# Altium footprint library MitchSwitch_Bypass.PCBLIB: 270 footprints (part 4 of 17)
Each footprint in its own frame and in the unit in brackets; x right, y up, seen from the top. Pads: shape width x height; smd on the part's side, far side on the other; paste and mask are expansions set on the pad; w line width, h text height; cw(c..) or ccw(c..) is an arc to the next point about the centre after c.
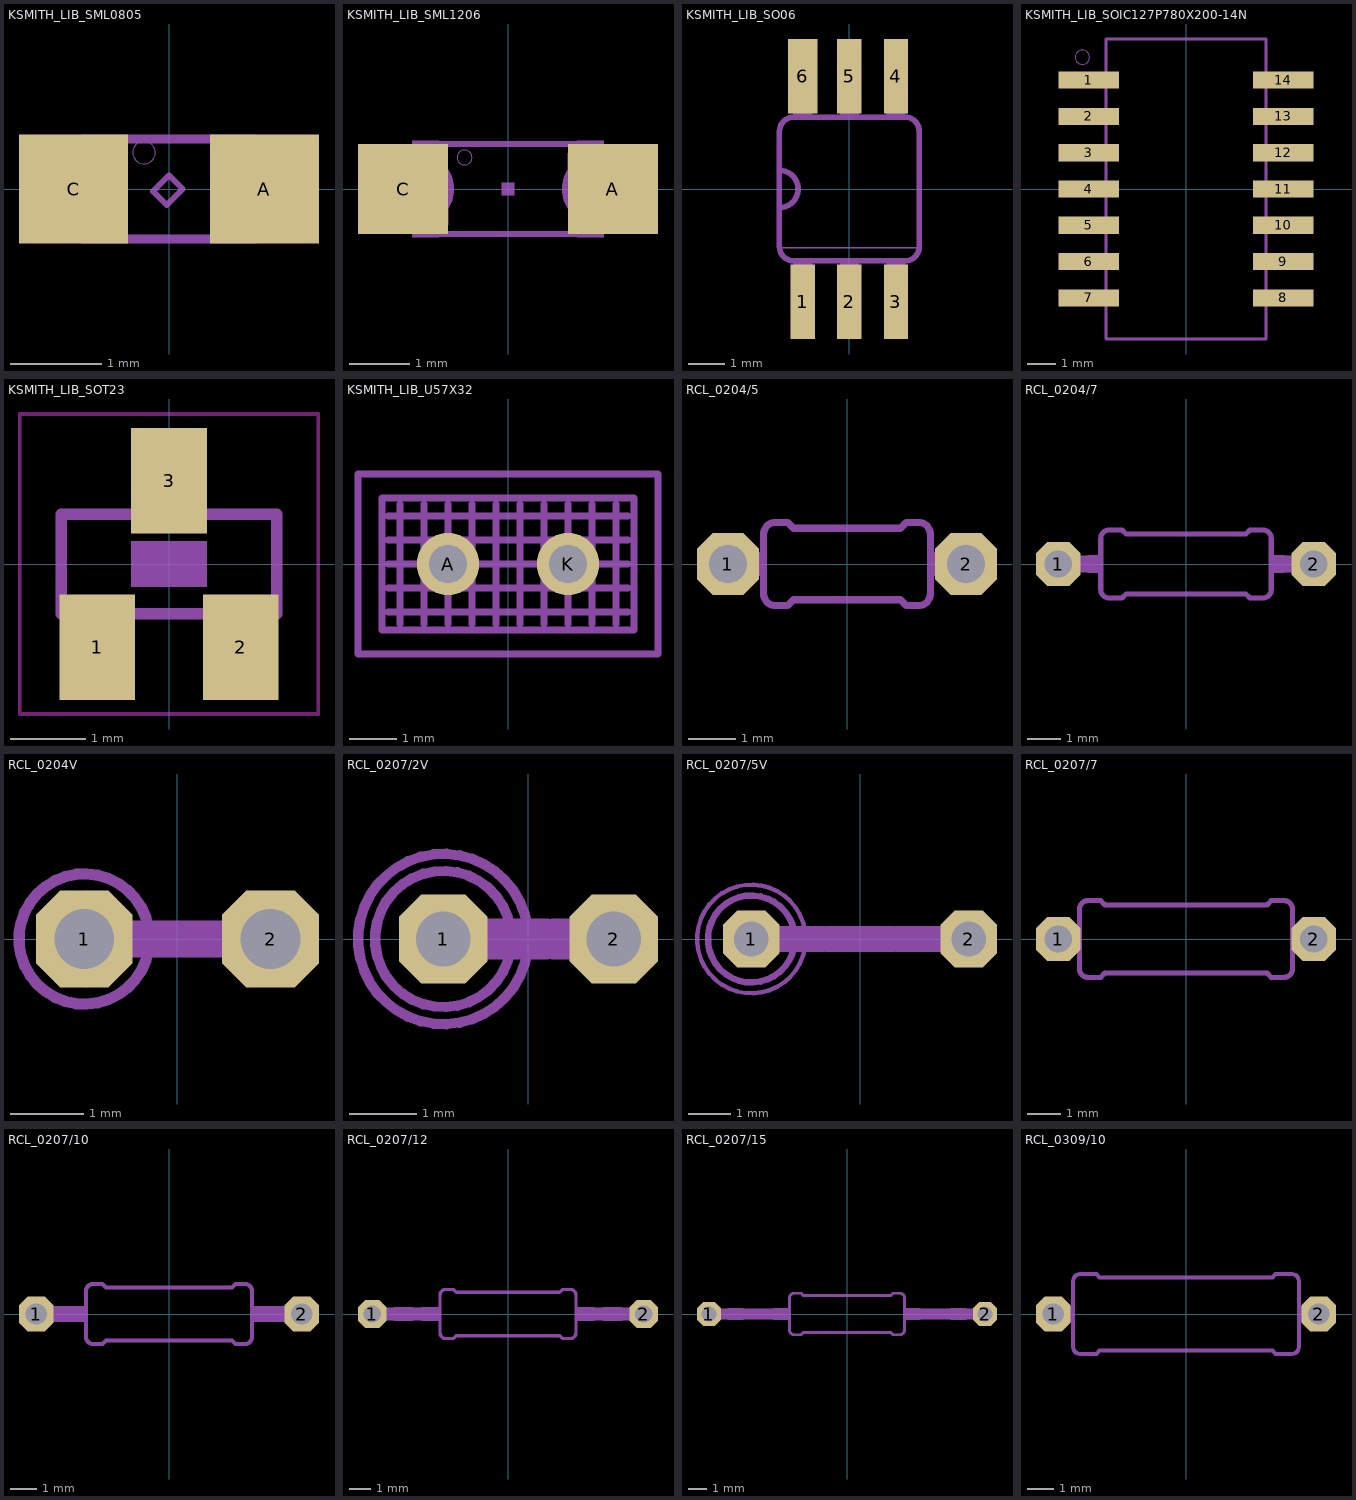
[diagram p3: the footprints below, top view; thin cyan lines are the x and y axes]

## KSMITH_LIB_SML0805 [mil]
pads (2):
  rect 47.24x47.24 smd: A(41.34,0) C(-41.34,0)
Mechanical 3:
  lines w4: -37.4,-21.65 37.4,-21.65 37.4,21.65 -37.4,21.65 -37.4,-21.65
Mechanical 7:
  circle w0: c-10.83,15.75 r4.92
  lines w2.5: -6.89,-0.98 0,5.91 5.91,0 -0.98,-6.89 -6.89,-0.98

## KSMITH_LIB_SML1206 [mil]
pads (2):
  rect 59.06x59.06 smd: A(68.9,0) C(-68.9,0)
Mechanical 3:
  region: -62.99,15.75 -62.99,31.5 -45.28,31.5 -45.28,15.75
  region: -62.99,-31.5 -62.99,-15.75 -45.28,-15.75 -45.28,-31.5
  region: -46.26,-23.62 -46.26,-10.83 -39.37,-10.83 -39.37,-23.62
  region: 62.99,-15.75 62.99,-31.5 45.28,-31.5 45.28,-15.75
  region: 62.99,31.5 62.99,15.75 45.28,15.75 45.28,31.5
  region: 46.26,23.62 46.26,10.83 39.37,10.83 39.37,23.62
  lines w4: -61.02,-29.53 61.02,-29.53 ; -61.02,29.53 61.02,29.53
  lines w8: -59.06,-19.69 ccw(c-59.06,0) -59.06,19.69 ; 59.06,-19.69 cw(c59.06,0) 59.06,19.69
Mechanical 7:
  circle w0: c-28.54,20.67 r4.92
  region: -3.94,-3.94 -3.94,3.94 3.94,3.94 3.94,-3.94

## KSMITH_LIB_SO06 [mil]
pads (6):
  rect 26x80 smd: 1(-50,-121) 2(0,-121) 3(50,-121) 4(50,121) 5(0,121)
  rect 31.5x80 smd: 6(-50,121)
Mechanical 3:
  region: -60,-122 -60,-77 -40,-77 -40,-122
  region: -10,-122 -10,-77 10,-77 10,-122
  region: 40,-121 40,-76 60,-76 60,-121
  region: 40,77 40,122 60,122 60,77
  region: -10,77 -10,122 10,122 10,77
  region: -60,77 -60,122 -40,122 -40,77
Mechanical 7:
  lines w2: -75,-63 75,-63
  lines w6: -75,-20 -75,20 ; -75,-20 -75,-62 ccw(c-60,-62) -60,-77 60,-77 ccw(c60,-62) 75,-62 75,62 ccw(c60,62) 60,77 -60,77 ccw(c-60,62) -75,62 -75,20 ; -75,-20 ccw(c-75,0) -75,20

## KSMITH_LIB_SOIC127P780X200-14N [mil]
pads (14):
  rect 82.99x23.7 smd: 1(-133.85,150) 2(-133.85,100) 3(-133.85,50) 4(-133.85,0) 5(-133.85,-50) 6(-133.85,-100) 7(-133.85,-150) 8(133.85,-150) 9(133.85,-100) 10(133.85,-50) 11(133.85,0) 12(133.85,50) 13(133.85,100) 14(133.85,150)
Mechanical 3:
  lines w4.72: -110.24,-206.69 110.24,-206.69 110.24,206.69 -110.24,206.69 -110.24,-206.69
Mechanical 7:
  circle w0: c-142.79,181.69 r9.84
  lines w4.72: -110.24,-171.85 -110.24,-206.69 110.24,-206.69 110.24,-171.85 ; -110.24,171.85 -110.24,206.69 110.24,206.69 110.24,171.85

## KSMITH_LIB_SOT23 [mm]
pads (3):
  rect 1x1.4 smd: 1(-0.95,-1.1) 2(0.95,-1.1) 3(0,1.1)
Top Layer keep-out:
  lines w0.051: -1.973,-1.983 1.973,-1.983 1.973,1.983 -1.973,1.983 -1.973,-1.983
Mechanical 3:
  region: -0.229,0.711 -0.229,1.295 0.229,1.295 0.229,0.711
  region: 0.711,-1.295 0.711,-0.711 1.168,-0.711 1.168,-1.295
  region: -1.168,-1.295 -1.168,-0.711 -0.711,-0.711 -0.711,-1.295
  lines w0.152: -1.422,-0.66 1.422,-0.66 1.422,0.66 -1.422,0.66 -1.422,-0.66
Mechanical 7:
  lines w0.152: -1.422,-0.152 -1.422,0.66 -0.864,0.66 ; 0.864,0.66 1.422,0.66 1.422,-0.152
Top Glue Points:
  region: -0.5,-0.3 -0.5,0.3 0.5,0.3 0.5,-0.3

## KSMITH_LIB_U57X32 [mil]
pads (2):
  round 52 hole 32: A(-50,0) K(50,0)
Mechanical 3:
  lines w6: -100,-40 100,-40 ; -100,-20 100,-20 ; -100,0 100,0 ; -100,20 100,20 ; -100,40 100,40 ; -90,-50 -90,50 ; -70,-50 -70,50 ; -50,-50 -50,50 ; -30,-50 -30,50 ; -10,-50 -10,50 ; 10,-50 10,50 ; 30,-50 30,50 ; 50,-50 50,50 ; 70,-50 70,50 ; 90,-50 90,50
Mechanical 7:
  lines w6: -125,-75 125,-75 125,75 -125,75 -125,-75 ; -105,-55 105,-55 105,55 -105,55 -105,-55

## RCL_0204/5 [mil]
pads (2):
  oct 52x52 / inner round 48.04 / far side oct 52x52 hole 32: 1(-100,0) 2(100,0)
Mechanical 3:
  region: -80,-10 -80,10 -70,10 -70,-10
  region: 70,-10 70,10 80,10 80,-10
  lines w6: -70,-25 -70,25 ; 70,-25 70,25
  lines w20: -100,0 -80,0 ; 80,0 100,0
Mechanical 7:
  lines w6: -70,-25 ccw(c-60,-25) -60,-35 -50,-35 -45,-30 45,-30 50,-35 60,-35 ccw(c60,-25) 70,-25 ; -70,25 cw(c-60,25) -60,35 -50,35 -45,30 45,30 50,35 60,35 cw(c60,25) 70,25

## RCL_0204/7 [mil]
pads (2):
  oct 52x52 / inner round 48.04 / far side oct 52x52 hole 32: 1(-150,0) 2(150,0)
Mechanical 3:
  lines w20: -150,0 -115,0 ; 115,0 150,0
Mechanical 7:
  region: 100,-10 100,10 115,10 115,-10
  region: -115,-10 -115,10 -100,10 -100,-10
  lines w6: -100,-30 ccw(c-90,-30) -90,-40 -75,-40 -70,-35 70,-35 75,-40 90,-40 ccw(c90,-30) 100,-30 100,30 ccw(c90,30) 90,40 75,40 70,35 -70,35 -75,40 -90,40 ccw(c-90,30) -100,30 -100,-30

## RCL_0204V [mil]
pads (2):
  oct 52x52 / inner round 48.04 / far side oct 52x52 hole 32: 1(-50,0) 2(50,0)
Mechanical 3:
  circle w6: c-50,0 r35
  circle w2: c-50,0 r25
  lines w20: -50,0 50,0
Mechanical 7:
  lines w20: -5,0 5,0

## RCL_0207/2V [mil]
pads (2):
  oct 52x52 / inner round 48.04 / far side oct 52x52 hole 32: 1(-50,0) 2(50,0)
Mechanical 3:
  circle w6: c-50,0 r40
  lines w24: -50,0 -15,0 ; 15,0 50,0
Mechanical 7:
  circle w6: c-50,0 r50
  lines w24: -10,0 10,0

## RCL_0207/5V [mil]
pads (2):
  oct 52x52 / inner round 48.04 / far side oct 52x52 hole 32: 1(-100,0) 2(100,0)
Mechanical 3:
  circle w6: c-100,0 r40
  lines w24: -100,0 -35,0 ; 35,0 100,0
Mechanical 7:
  circle w4: c-100,0 r50
  lines w24: -30,0 30,0

## RCL_0207/7 [mil]
pads (2):
  oct 52x52 / inner round 48.04 / far side oct 52x52 hole 32: 1(-150,0) 2(150,0)
Mechanical 3:
  region: -135,-12 -135,12 -125,12 -125,-12
  region: 125,-12 125,12 135,12 135,-12
  lines w6: -125,-35 -125,35 ; 125,-35 125,35
  lines w24: -150,0 -135,0 ; 135,0 150,0
Mechanical 7:
  lines w6: -125,-35 ccw(c-115,-35) -115,-45 -100,-45 -95,-40 95,-40 100,-45 115,-45 ccw(c115,-35) 125,-35 ; -125,35 cw(c-115,35) -115,45 -100,45 -95,40 95,40 100,45 115,45 cw(c115,35) 125,35

## RCL_0207/10 [mil]
pads (2):
  oct 52x52 / inner round 48.04 / far side oct 52x52 hole 32: 1(-200,0) 2(200,0)
Mechanical 3:
  lines w24: -200,0 -160,0 ; 160,0 200,0
Mechanical 7:
  region: 125,-12 125,12 159,12 159,-12
  region: -159,-12 -159,12 -125,12 -125,-12
  lines w6: -125,-35 ccw(c-115,-35) -115,-45 -100,-45 -95,-40 95,-40 100,-45 115,-45 ccw(c115,-35) 125,-35 125,35 ccw(c115,35) 115,45 100,45 95,40 -95,40 -100,45 -115,45 ccw(c-115,35) -125,35 -125,-35

## RCL_0207/12 [mil]
pads (2):
  oct 52x52 / inner round 48.04 / far side oct 52x52 hole 32: 1(-250,0) 2(250,0)
Mechanical 3:
  lines w24: -250,0 -210,0 ; 210,0 250,0
Mechanical 7:
  region: 125,-12 125,12 159,12 159,-12
  region: -159,-12 -159,12 -125,12 -125,-12
  region: 175,-12 175,12 209,12 209,-12
  region: -209,-12 -209,12 -175,12 -175,-12
  lines w6: -125,-35 ccw(c-115,-35) -115,-45 -100,-45 -95,-40 95,-40 100,-45 115,-45 ccw(c115,-35) 125,-35 125,35 ccw(c115,35) 115,45 100,45 95,40 -95,40 -100,45 -115,45 ccw(c-115,35) -125,35 -125,-35
  lines w24: -175,0 -160,0 ; 160,0 175,0

## RCL_0207/15 [mil]
pads (2):
  oct 52x52 / inner round 48.04 / far side oct 52x52 hole 32: 1(-300,0) 2(300,0)
Mechanical 3:
  lines w24: -300,0 -260,0 ; 260,0 300,0
Mechanical 7:
  region: 125,-12 125,12 159,12 159,-12
  region: -159,-12 -159,12 -125,12 -125,-12
  region: 225,-12 225,12 259,12 259,-12
  region: -259,-12 -259,12 -225,12 -225,-12
  lines w6: -125,-35 ccw(c-115,-35) -115,-45 -100,-45 -95,-40 95,-40 100,-45 115,-45 ccw(c115,-35) 125,-35 125,35 ccw(c115,35) 115,45 100,45 95,40 -95,40 -100,45 -115,45 ccw(c-115,35) -125,35 -125,-35
  lines w24: -225,0 -160,0 ; 160,0 225,0

## RCL_0309/10 [mil]
pads (2):
  oct 52x52 / inner round 48.04 / far side oct 52x52 hole 32: 1(-200,0) 2(200,0)
Mechanical 3:
  region: -182,-12 -182,12 -170,12 -170,-12
  region: 170,-12 170,12 182,12 182,-12
  lines w6: -170,-50 -170,50 ; 170,-50 170,50
  lines w24: -200,0 -185,0 ; 185,0 200,0
Mechanical 7:
  lines w6: -170,-50 ccw(c-160,-50) -160,-60 -135,-60 -130,-55 130,-55 135,-60 160,-60 ccw(c160,-50) 170,-50 ; -170,50 cw(c-160,50) -160,60 -135,60 -130,55 130,55 135,60 160,60 cw(c160,50) 170,50